# Altium schematic symbol library lib_test.SchLib: 2 symbols
Pins are listed as number, name and electrical type; pins without a type are passive.

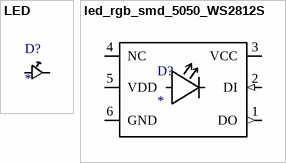
[diagram p0: symbols LED to led_rgb_smd_5050_WS2812S]

## LED
designator D?
footprint LED
footprint led_rgb_smd_5050_WS2812S (LED rgb in smd package 5050 and driver WS2812S)
pins: 1, 2

## led_rgb_smd_5050_WS2812S
designator D?
LED rgb in smd package 5050 and driver WS2812S
footprint led_rgb_smd_5050_WS2812S (LED rgb in smd package 5050 and driver WS2812S)
pins: 1 DO (out), 2 DI (in), 3 VCC (power) "control supply", 4 NC, 5 VDD (power) "led supply", 6 GND (power)